# Altium schematic symbol library sym-0023.SchLib: 1 symbol
Pins are listed as number, name and electrical type; pins without a type are passive.

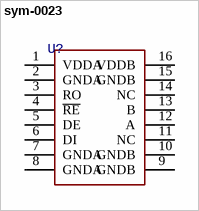
[diagram p0: symbol sym-0023]

## sym-0023
designator U?
CA-IS3082WX CA-IS3088WX ISO3082DW ISO3088DW /
pins: 1 VDDA (power) "逻辑侧电源输入，在VDDA与GNDA引脚之间连接0.1μF和1μF旁路电容,电容应尽可", 2 GNDA "逻辑侧地，GNDA是数字信号的地参考端。", 3 RO "接收器数据输出，将RE置低，接收器使能。RE为低电平时，如果(VA – VB) > –50mV，RO", 4 ~{RE} "接收器使能控制输入，低电平有效。", 5 DE "驱动器使能控制输入，高电平有效。DE为低电平时，禁止数据发送，驱动器输出为高", 6 DI "驱动器数据输入，DE为高电平时，如果DI为高电平，则同相输出(A)为高电平，反相", 7 GNDA, 8 GNDA, 9 GNDB "总线侧地，GNDB是RS-485总线信号的地参考端。", 10 GNDB "总线侧地，GNDB是RS-485总线信号的地参考端。", 11 NC "无内部连接。", 12 A "RS-485总线驱动器同相输出/接收器同相输入。", 13 B "RS-485总线驱动器反相输出/接收器反相输入。", 14 NC "无内部连接。", 15 GNDB, 16 VDDB "总线侧电源输入，在VDDB与GNDB引脚之间连接0.1μF和1μF旁路电容,电容应尽可"
2 alternate drawings of the same symbol